# EAGLE library part AB0815_RTC (library AB0815 RTC)
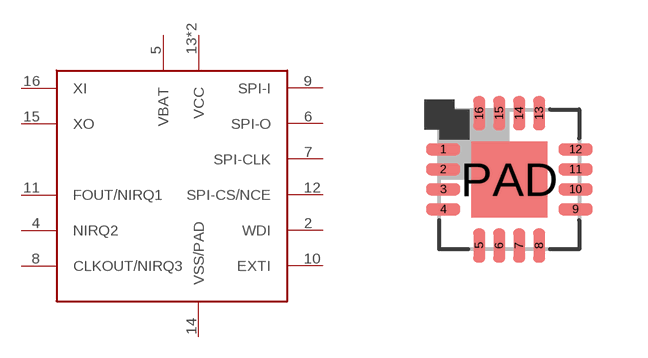
[diagram p0: symbol with the pads of QFN16; footprint QFN16]

Designator prefix -

## AB0815_RTC  [QFN16]
2  WDI
4  NIRQ2
5  VBAT
6  SPI-O
7  SPI-CLK
8  CLKOUT/NIRQ3
9  SPI-I
10  EXTI
11  FOUT/NIRQ1
12  SPI-CS/NCE
13  VCC
14  VSS/PAD
15  XO
16  XI
PAD  VCC

## Footprint QFN16 (pad centres in mm)
RTE (S-PQFP-N16) 3x3 mm Source: www.ti.com .. tpa6132a2 direct path stereo $.65.pdf
smd 0.85 x 0.3: 1 -1.655,0.75; 2 -1.655,0.25; 3 -1.655,-0.25; 4 -1.655,-0.75; 9 1.655,-0.75; 10 1.655,-0.25; 11 1.655,0.25; 12 1.655,0.75
smd 0.3 x 0.85: 5 -0.75,-1.655; 6 -0.25,-1.655; 7 0.25,-1.655; 8 0.75,-1.655; 13 0.75,1.655; 14 0.25,1.655; 15 -0.25,1.655; 16 -0.75,1.655
smd 1.9 x 1.9: PAD 0,0